# Altium footprint library Altium footprints, SMD Ceramic Capacitors, 2013-06-08-1.PcbLib: 12 footprints
Each footprint in its own frame and in the unit in brackets; x right, y up, seen from the top. Pads: shape width x height; smd on the part's side, far side on the other; paste and mask are expansions set on the pad; w line width, h text height; cw(c..) or ccw(c..) is an arc to the next point about the centre after c.
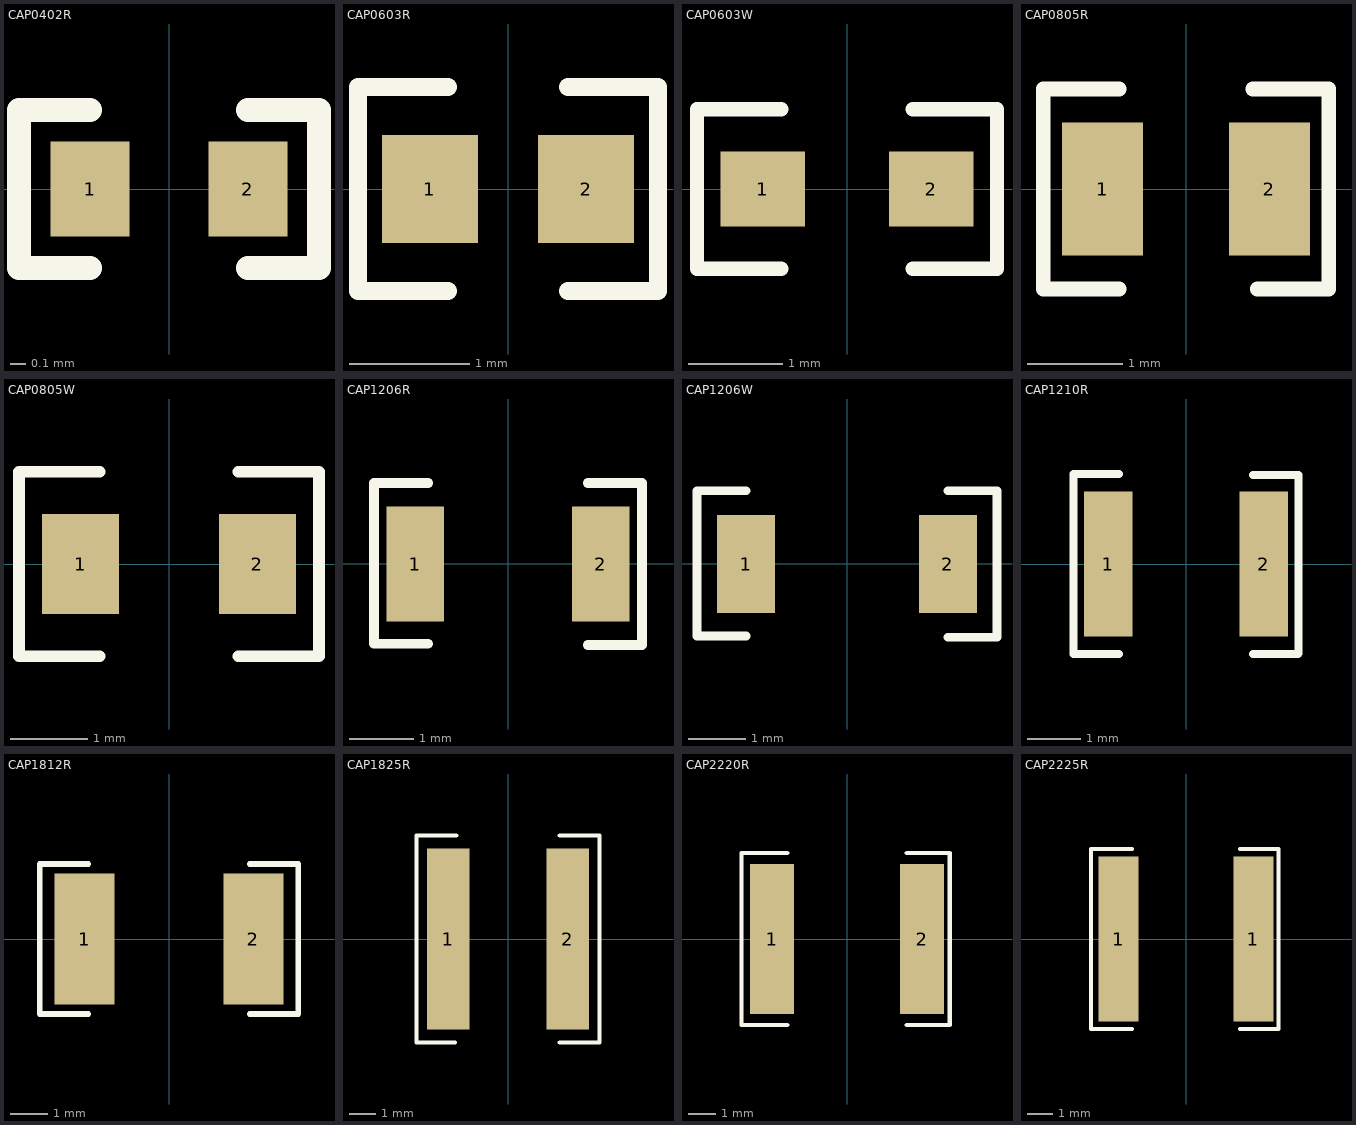
[diagram p0: the footprints below, top view; thin cyan lines are the x and y axes]

## CAP0402R [mm] "Capacitor 0402 reflow soldering"
pads (2):
  rect 0.5x0.6 smd: 1(-0.5,0) 2(0.5,0)
Top Overlay:
  lines w0.152: -0.5,-0.5 -0.95,-0.5 -0.95,0.5 -0.5,0.5 ; 0.5,-0.5 0.95,-0.5 0.95,0.5 0.5,0.5
3D body: height 0.2, standoff 0, extent -0.5,-0.3 0.5,0.3

## CAP0603R [mm] "capacitor 0603 reflow soldering"
pads (2):
  rect 0.8x0.9 smd: 1(-0.65,0) 2(0.65,0)
Top Overlay:
  lines w0.152: -0.5,-0.85 -1.25,-0.85 -1.25,0.85 -0.5,0.85 ; 0.5,-0.85 1.25,-0.85 1.25,0.85 0.5,0.85
3D body: height 0.3, standoff 0, extent -0.8,-0.4 0.8,0.4

## CAP0603W [mm] "capacitor 0603 wave soldering"
pads (2):
  rect 0.9x0.8 smd: 1(-0.9,0) 2(0.9,0)
Top Overlay:
  lines w0.152: -0.7,-0.85 -1.6,-0.85 -1.6,0.85 -0.7,0.85 ; 0.7,-0.85 1.6,-0.85 1.6,0.85 0.7,0.85
3D body: height 0.3, standoff 0, extent -0.8,-0.4 0.8,0.4

## CAP0805R [mm] "capacitor 0805 reflow soldering"
pads (2):
  rect 0.85x1.4 smd: 1(-0.875,0) 2(0.875,0)
Top Overlay:
  lines w0.152: -0.7,-1.05 -1.5,-1.05 -1.5,1.05 -0.7,1.05 ; 0.7,1.05 1.5,1.05 1.5,-1.05 0.75,-1.05
3D body: height 0.78, standoff 0, extent -1,-0.625 1,0.625

## CAP0805W [mm] "capacitor 0805 wave soldering"
pads (2):
  rect 1x1.3 smd: 1(-1.15,0) 2(1.15,0)
Top Overlay:
  lines w0.152: -0.9,-1.2 -1.95,-1.2 -1.95,1.2 -0.9,1.2 ; 0.9,-1.2 1.95,-1.2 1.95,1.2 0.9,1.2
3D body: height 0.78, standoff 0, extent -1,-0.625 1,0.625

## CAP1206R [mm] "capacitor 1206 reflow soldering"
pads (2):
  rect 0.9x1.8 smd: 1(-1.45,0) 2(1.45,0)
Top Overlay:
  lines w0.152: -1.25,-1.25 -2.1,-1.25 -2.1,1.27 -1.25,1.27 ; 1.25,-1.27 2.1,-1.27 2.1,1.27 1.25,1.27
3D body: height 1, standoff 0, extent -1.6,-0.8 1.6,0.8

## CAP1206W [mm] "capacitor 1206 wave soldering"
pads (2):
  rect 1x1.7 smd: 1(-1.75,0) 2(1.75,0)
Top Overlay:
  lines w0.152: -1.75,-1.25 -2.6,-1.25 -2.6,1.27 -1.75,1.27 ; 1.75,-1.27 2.6,-1.27 2.6,1.27 1.75,1.27
3D body: height 1, standoff 0, extent -1.6,-0.8 1.6,0.8

## CAP1210R [mm] "capacitor 1210 reflow soldering"
pads (2):
  rect 0.9x2.7 smd: 1(-1.45,0) 2(1.45,0)
Top Overlay:
  lines w0.152: -1.25,-1.68 -2.1,-1.68 -2.1,1.68 -1.25,1.68 ; 1.25,-1.68 2.09,-1.68 2.1,-1.67 2.1,1.66 1.25,1.66
3D body: height 0.92, standoff -0.02, extent -1.6,-1.25 1.6,1.25

## CAP1812R [mm] "capacitor 1812 reflow soldering"
pads (2):
  rect 1.6x3.5 smd: 1(-2.25,0) 2(2.25,0)
Top Overlay:
  lines w0.152: -2.15,-2 -3.45,-2 -3.45,2 -2.15,2 ; 2.15,-2 3.45,-2 3.45,2 2.15,2
3D body: height 1.6, standoff 0, extent -2.25,-1.6 2.25,1.6

## CAP1825R [mm] "capacitor 1825 reflow soldering"
pads (2):
  rect 1.6x6.8 smd: 1(-2.25,0) 2(2.25,0)
Top Overlay:
  lines w0.152: -2,-3.9 -3.45,-3.9 -3.45,3.9 -1.95,3.9 ; 1.95,-3.9 3.45,-3.9 3.45,3.9 1.95,3.9
3D body: height 1.22, standoff -0.02, extent -2.25,-3.2 2.25,3.2

## CAP2220R [mm] "capacitor 2220 reflow soldering"
pads (2):
  rect 1.6x5.4 smd: 1(-2.7,0) 2(2.7,0)
Top Overlay:
  lines w0.152: -2.15,-3.1 -3.8,-3.1 -3.8,3.1 -2.15,3.1 ; 2.15,-3.1 3.7,-3.1 3.7,3.1 2.15,3.1
3D body: height 2.24, standoff -0.04, extent -2.85,-2.5 2.85,2.5

## CAP2225R [mm] "capacitor 2225 reflow soldering"
pads (2):
  rect 1.6x6.6 smd: 1(-2.7,0) 1(2.7,0)
Top Overlay:
  lines w0.152: -2.15,-3.6 -3.8,-3.6 -3.8,3.6 -2.15,3.6 ; 2.15,-3.6 3.7,-3.6 3.7,3.6 2.15,3.6
3D body: height 1.44, standoff -0.04, extent -2.85,-3.175 2.87,3.175